# EAGLE library part CONNECTBOX_2019_219-4LPST (library ConnectBox_Charger)
Series 219, SMD DIP-switch Source: Datasheet <http://www.ctscorp.com/wp-content/uploads/2015/11/219.pdf>
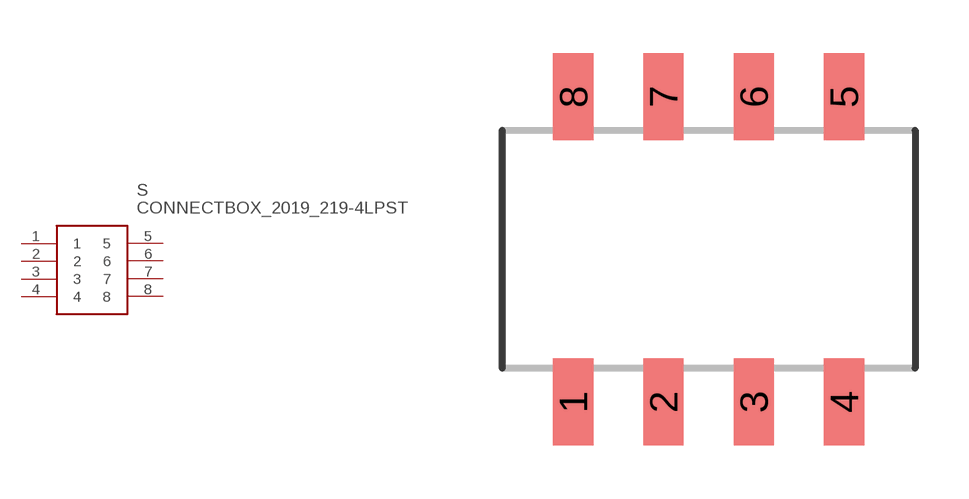
[diagram p0: symbol with the pads of CONNECTBOX_2019_219-4LPST; footprint CONNECTBOX_2019_219-4LPST]

Designator prefix S

## CONNECTBOX_2019_219-4LPST (DESCRIPTION: Series 219, SMD DIP-switch; HEIGHT: mm; MANUFACTURER_NAME: CTS; MANUFACTURER_PART_NUMBER: 219-4LPST; MOUSER_PART_NUMBER: 774-2194LPST; MOUSER_PRICE-STOCK: https://www.mouser.com/Search/Refine.aspx?Keyword=774-2194LPST; RS_PART_NUMBER: 1774220; RS_PRICE-STOCK: http://uk.rs-online.com/web/p/products/1774220)  [CONNECTBOX_2019_219-4LPST]
1  1
2  2
3  3
4  4
5  5
6  6
7  7
8  8

## Footprint CONNECTBOX_2019_219-4LPST (pad centres in mm)
219-4LPST
smd 1.13 x 2.44: 1 -3.81,-4.3; 2 -1.27,-4.3; 3 1.27,-4.3; 4 3.81,-4.3; 5 3.81,4.3; 6 1.27,4.3; 7 -1.27,4.3; 8 -3.81,4.3